# EAGLE library part ZR_B9B-ZR (library CASE-JST)
JST ZR Connector, through hole, 9 pin, top entry Description: JST ZR connector with 1.5 mm pitch, through hole version, 9 pin, top entry. Links: Datasheet <http://www.jst-mfg.com/product/pdf/eng/eZH.pdf>
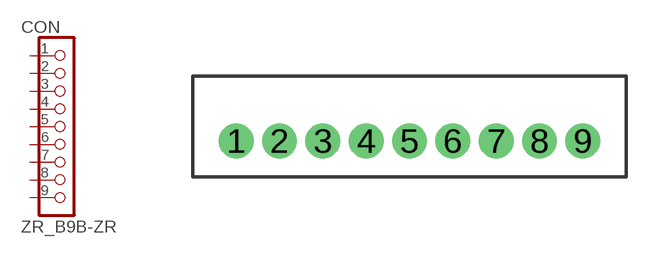
[diagram p21: symbol with the pads of B9B-ZR; footprint B9B-ZR]

Designator prefix CON

## ZR_B9B-ZR  [B9B-ZR]
1  1  pas
2  2  pas
3  3  pas
4  4  pas
5  5  pas
6  6  pas
7  7  pas
8  8  pas
9  9  pas

## Footprint B9B-ZR (pad centres in mm)
JST B9B-ZR Datasheet <http://www.jst-mfg.com/product/pdf/eng/eZH.pdf>
drill 0.7: 1 -6,0; 2 -4.5,0; 3 -3,0; 4 -1.5,0; 5 0,0; 6 1.5,0; 7 3,0; 8 4.5,0; 9 6,0